# EAGLE library part ATTINY*41 (library atmel)
8-bit AVR tiny Microcontroller Status aktiv aktiv ATtiny441 ATtiny841 General purpose working registers 32 SRAM 256 B 512 B Program flash memory 4 kB 8 kB EEPROM 256 B 512 B 16-bit Timer/Counter 2 8-bit Timer/Counter 1 USART 2 SPI 1 TWI (I2C) 1 ADC channels 12 ADC resolution 10 bit AC 2 Watchdog 1 General purpose I/O 12 External interrupts 12 Operating voltage 1.7 ... 5.5 V Speed grade 0 ... 2 MHz @ 1.7 ... 1.8 V 0 ... 4 MHz @ 1.8 ... 5.5 V 0 ... 10 MHz @ 2.7 ... 5.5 V 0 ... 16 MHz @ 4.5 ... 5.5V Clock options calibrated internal 8 MHz oscillator external crystal oscillator / ceramic resonator external 32.768 kHz low-frequency crystal oscillator internal 32 kHz oscillator external clock input
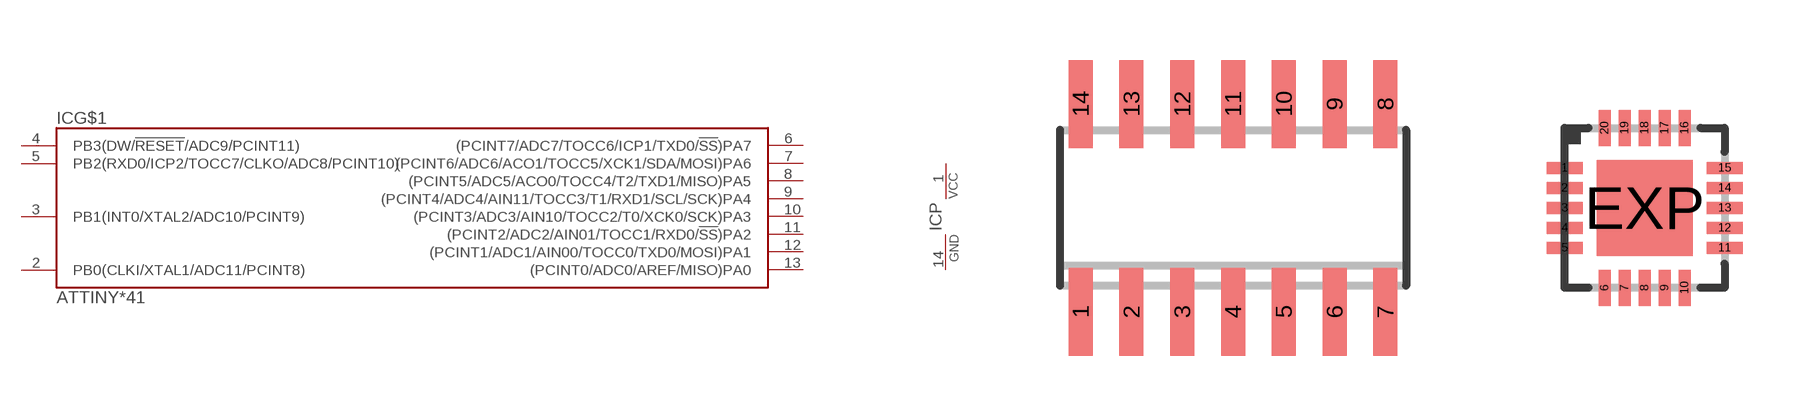
[diagram p93: symbol with the pads of SO14; footprints SO14, QFN20_4X4_0.50]

Designator prefix IC; gates G$1=TINY841 P=PWR

## ATTINY441-SSU, ATTINY841-SSU  [SO14]
1  P:VCC  pwr
2  G$1:PB0(CLKI/XTAL1/ADC11/PCINT8)
3  G$1:PB1(INT0/XTAL2/ADC10/PCINT9)
4  G$1:PB3(DW/!RESET!/ADC9/PCINT11)
5  G$1:PB2(RXD0/ICP2/TOCC7/CLKO/ADC8/PCINT10)
6  G$1:(PCINT7/ADC7/TOCC6/ICP1/TXD0/!SS!)PA7
7  G$1:(PCINT6/ADC6/ACO1/TOCC5/XCK1/SDA/MOSI)PA6
8  G$1:(PCINT5/ADC5/ACO0/TOCC4/T2/TXD1/MISO)PA5
9  G$1:(PCINT4/ADC4/AIN11/TOCC3/T1/RXD1/SCL/SCK)PA4
10  G$1:(PCINT3/ADC3/AIN10/TOCC2/T0/XCK0/SCK)PA3
11  G$1:(PCINT2/ADC2/AIN01/TOCC1/RXD0/!SS!)PA2
12  G$1:(PCINT1/ADC1/AIN00/TOCC0/TXD0/MOSI)PA1
13  G$1:(PCINT0/ADC0/AREF/MISO)PA0
14  P:GND  pwr

## ATTINY441-MU, ATTINY841-MU  [QFN20_4X4_0.50]
1  G$1:(PCINT4/ADC4/AIN11/TOCC3/T1/RXD1/SCL/SCK)PA4
2  G$1:(PCINT3/ADC3/AIN10/TOCC2/T0/XCK0/SCK)PA3
3  G$1:(PCINT2/ADC2/AIN01/TOCC1/RXD0/!SS!)PA2
4  G$1:(PCINT1/ADC1/AIN00/TOCC0/TXD0/MOSI)PA1
5  G$1:(PCINT0/ADC0/AREF/MISO)PA0
8  P:GND  pwr
9  P:VCC  pwr
11  G$1:PB0(CLKI/XTAL1/ADC11/PCINT8)
12  G$1:PB1(INT0/XTAL2/ADC10/PCINT9)
13  G$1:PB3(DW/!RESET!/ADC9/PCINT11)
14  G$1:PB2(RXD0/ICP2/TOCC7/CLKO/ADC8/PCINT10)
15  G$1:(PCINT7/ADC7/TOCC6/ICP1/TXD0/!SS!)PA7
16  G$1:(PCINT6/ADC6/ACO1/TOCC5/XCK1/SDA/MOSI)PA6
20  G$1:(PCINT5/ADC5/ACO0/TOCC4/T2/TXD1/MISO)PA5
EXP  P:GND  pwr

## ATTINY441-MMH, ATTINY841-MMH  [QFN20_3X3_0.45]
Pads as for QFN20_4X4_0.50

## Footprint SO14 (pad centres in mm)
Small Outline IC, 150mil body width, 50mil lead pitch package/pad dimensions according to IPC-SM-782, RLP No. 302A JEDEC: MS-012 AB IPC: SO14 other notations: SO-14, SOIC14, SOIC-14
smd 0.6 x 2.2: 1 -3.81,-2.6; 2 -2.54,-2.6; 3 -1.27,-2.6; 4 0,-2.6; 5 1.27,-2.6; 6 2.54,-2.6; 7 3.81,-2.6; 8 3.81,2.6; 9 2.54,2.6; 10 1.27,2.6; 11 0,2.6; 12 -1.27,2.6; 13 -2.54,2.6; 14 -3.81,2.6

## Footprint QFN20_4X4_0.50 (pad centres in mm)
20-Lead Plastic QFN, 4mm x 4mm body, 0.5mm lead pitch, exposed pad 0.45 mm lead length JEDEC: MO-220 ATMEL Code: 20M1, ZFV other notations: MFL20
smd 0.9 x 0.3: 1 -2,1; 2 -2,0.5; 3 -2,0; 4 -2,-0.5; 5 -2,-1; 11 2,-1; 12 2,-0.5; 13 2,0; 14 2,0.5; 15 2,1
smd 0.3 x 0.9: 6 -1,-2; 7 -0.5,-2; 8 0,-2; 9 0.5,-2; 10 1,-2; 16 1,2; 17 0.5,2; 18 0,2; 19 -0.5,2; 20 -1,2
smd 2.4 x 2.4: EXP 0,0

## Footprint QFN20_3X3_0.45 (pad centres in mm)
20-Lead Plastic QFN, 3mm x 3mm body, 0.45mm lead pitch, exposed pad ATMEL Code: 20M2, ZFC
smd 0.7 x 0.25: 1 -1.55,0.9; 5 -1.55,-0.9; 11 1.55,-0.9; 15 1.55,0.9
smd 0.8 x 0.25: 2 -1.5,0.45; 3 -1.5,0; 4 -1.5,-0.45; 12 1.5,-0.45; 13 1.5,0; 14 1.5,0.45
smd 0.25 x 0.7: 6 -0.9,-1.55; 10 0.9,-1.55; 16 0.9,1.55; 20 -0.9,1.55
smd 0.25 x 0.8: 7 -0.45,-1.5; 8 0,-1.5; 9 0.45,-1.5; 17 0.45,1.5; 18 0,1.5; 19 -0.45,1.5
smd 1.6 x 1.6: EXP 0,0